# Altium schematic symbol library MS5535.SchLib: 1 symbol
Pins are listed as number, name and electrical type; pins without a type are passive.

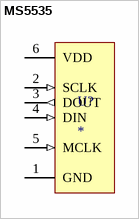
[diagram p0: symbol MS5535]

## MS5535
designator U?
SENSOR PRESURE 14 BAR 16BIT; digikey: 223-1101-1-ND
footprint MS5535 (Pressure Sensor)
pins: 1 GND (power), 2 SCLK (in), 3 DOUT (out), 4 DIN (in), 5 MCLK (in), 6 VDD (power)